# Altium footprint library con-amp-mt.PCBLIB: 51 footprints (part 2 of 4)
Each footprint in its own frame and in the unit in brackets; x right, y up, seen from the top. Pads: shape width x height; smd on the part's side, far side on the other; paste and mask are expansions set on the pad; w line width, h text height; cw(c..) or ccw(c..) is an arc to the next point about the centre after c.
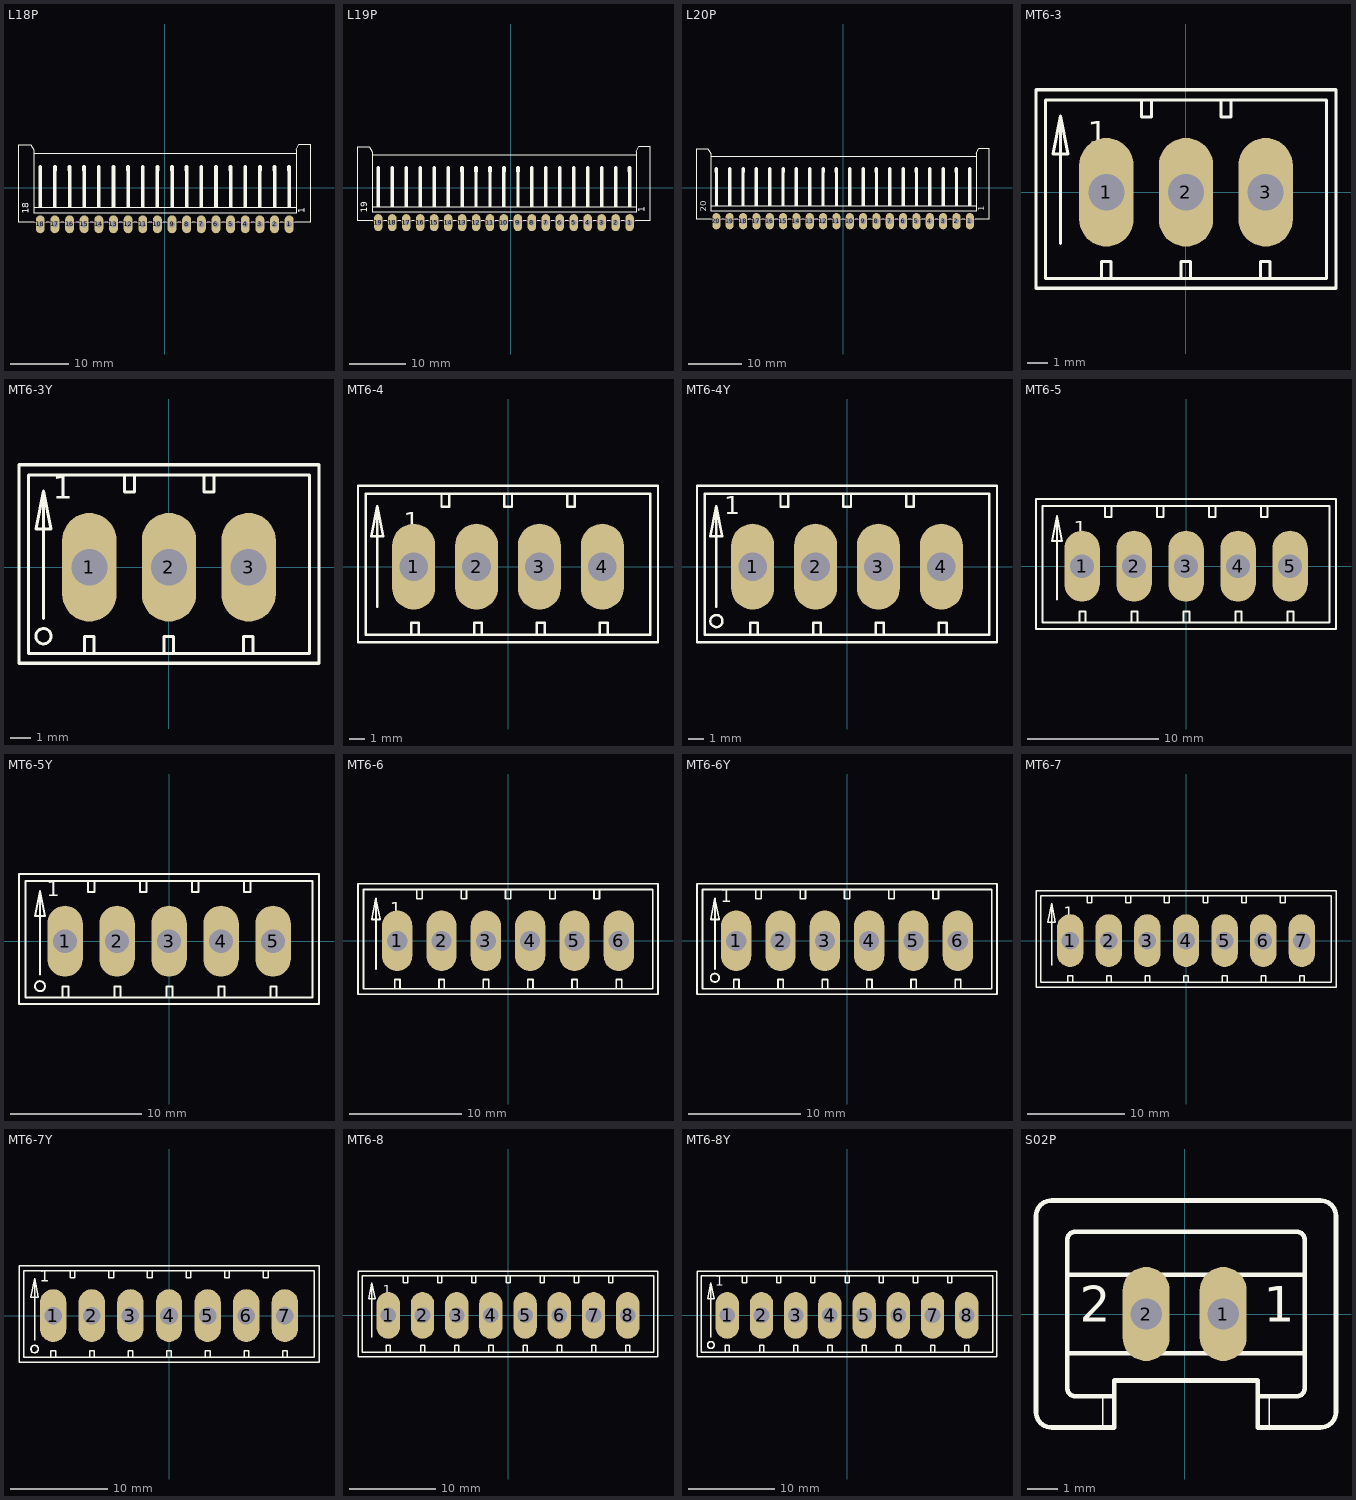
[diagram p1: the footprints below, top view; thin cyan lines are the x and y axes]

## L18P [mil]
pads (18):
  oval 60x120 hole 40: 1(836.61,-246.06) 2(738.19,-246.06) 3(639.76,-246.06) 4(541.34,-246.06) 5(442.91,-246.06) 6(344.49,-246.06) 7(246.06,-246.06) 8(147.64,-246.06) 9(49.21,-246.06) 10(-49.21,-246.06) 11(-147.64,-246.06) 12(-246.06,-246.06) 13(-344.49,-246.06) 14(-442.91,-246.06) 15(-541.34,-246.06) 16(-639.39,-246.06) 17(-738.39,-246.06) 18(-836.39,-246.06)
Top Overlay:
  rectangle: 824.61,-136.06 848.61,123.94
  rectangle: 726.61,-136.06 750.61,123.94
  rectangle: 627.61,-136.06 651.61,123.94
  rectangle: 529.61,-136.06 553.61,123.94
  rectangle: 430.61,-136.06 454.61,123.94
  rectangle: 332.61,-136.06 356.61,123.94
  rectangle: 233.61,-136.06 257.61,123.94
  rectangle: 135.61,-136.06 159.61,123.94
  rectangle: 37.61,-136.06 61.61,123.94
  rectangle: -61.39,-136.06 -37.39,123.94
  rectangle: -159.39,-136.06 -135.39,123.94
  rectangle: -258.39,-136.06 -234.39,123.94
  rectangle: -356.39,-136.06 -332.39,123.94
  rectangle: -455.39,-136.06 -431.39,123.94
  rectangle: -553.39,-136.06 -529.39,123.94
  rectangle: -651.39,-136.06 -627.39,123.94
  rectangle: -750.39,-136.06 -726.39,123.94
  rectangle: -848.39,-136.06 -824.39,123.94
  lines w6: -876.38,-231.06 -979.37,-231.06 -979.37,288.94 -899.37,288.94 -879.37,253.94 -879.37,228.94 ; -797.4,-231.06 -777.4,-231.06 ; -698.39,-231.06 -678.39,-231.06 ; -599.37,-231.06 -579.37,-231.06 ; -501.38,-231.06 -481.38,-231.06 ; -403.39,-231.06 -383.39,-231.06 ; -305.39,-231.06 -285.39,-231.06 ; -207.4,-231.06 -187.4,-231.06 ; -108.39,-231.06 -88.39,-231.06 ; -10.39,-231.06 9.61,-231.06 ; 87.6,-231.06 107.6,-231.06 ; 185.63,-231.06 206.61,-231.06 ; 284.61,-231.06 304.61,-231.06 ; 382.6,-231.06 405.63,-231.06 ; 482.6,-231.06 502.6,-231.06 ; 580.63,-231.06 601.61,-231.06 ; 679.61,-231.06 699.61,-231.06 ; 777.6,-231.06 797.6,-231.06 ; 875.63,-231.06 981.61,-231.06 981.61,288.94 902.6,288.94 882.6,253.94 882.6,228.94 ; -879.37,-136.06 882.6,-136.06 ; -879.37,-136.06 -879.37,-171.06 882.6,-171.06 882.6,-136.06 ; -879.37,-136.06 -879.37,228.94 ; -879.37,228.94 882.6,228.94 ; 882.6,-136.06 882.6,228.94
  lines w26: -836.38,118.94 -836.38,138.94 ; -738.39,118.94 -738.39,138.94 ; -639.37,118.94 -639.37,138.94 ; -541.34,118.94 -541.34,138.94 ; -442.91,118.94 -442.91,138.94 ; -344.49,118.94 -344.49,138.94 ; -246.06,118.94 -246.06,138.94 ; -147.64,118.94 -147.64,138.94 ; -49.21,118.94 -49.21,138.94 ; 49.61,118.94 49.61,138.94 ; 147.6,118.94 147.6,138.94 ; 246.06,118.94 246.06,138.94 ; 344.61,118.94 344.61,138.94 ; 442.6,118.94 442.6,138.94 ; 541.34,118.94 541.34,138.94 ; 639.61,118.94 639.61,138.94 ; 738.19,118.94 738.19,138.94 ; 836.61,118.94 836.61,138.94
  text "1" at 959.61,-171.06 h77.5
  text "18" at -897.39,-176.06 h77.5
Mechanical 16:
  rectangle: 824.61,-256.06 848.61,-231.06
  rectangle: 726.61,-256.06 750.61,-231.06
  rectangle: 627.61,-256.06 651.61,-231.06
  rectangle: 529.61,-256.06 553.61,-231.06
  rectangle: 430.61,-256.06 454.61,-231.06
  rectangle: 332.61,-256.06 356.61,-231.06
  rectangle: 233.61,-256.06 257.61,-231.06
  rectangle: 135.61,-256.06 159.61,-231.06
  rectangle: 37.61,-256.06 61.61,-231.06
  rectangle: -61.39,-256.06 -37.39,-231.06
  rectangle: -159.39,-256.06 -135.39,-231.06
  rectangle: -258.39,-256.06 -234.39,-231.06
  rectangle: -356.39,-256.06 -332.39,-231.06
  rectangle: -455.39,-256.06 -431.39,-231.06
  rectangle: -553.39,-256.06 -529.39,-231.06
  rectangle: -651.39,-256.06 -627.39,-231.06
  rectangle: -750.39,-256.06 -726.39,-231.06
  rectangle: -848.39,-256.06 -824.39,-231.06
  lines w6: -875.39,-231.06 -797.4,-231.06 ; -777.4,-231.06 -699.37,-231.06 ; -678.39,-231.06 -600.39,-231.06 ; -580.39,-231.06 -502.4,-231.06 ; -482.4,-231.06 -404.37,-231.06 ; -383.39,-231.06 -305.39,-231.06 ; -285.39,-231.06 -207.4,-231.06 ; -186.38,-231.06 -108.39,-231.06 ; -88.39,-231.06 -10.39,-231.06 ; 9.61,-231.06 87.6,-231.06 ; 107.6,-231.06 185.63,-231.06 ; 206.61,-231.06 284.61,-231.06 ; 304.61,-231.06 382.6,-231.06 ; 405.63,-231.06 482.6,-231.06 ; 502.6,-231.06 580.63,-231.06 ; 601.61,-231.06 679.61,-231.06 ; 699.61,-231.06 777.6,-231.06 ; 797.6,-231.06 875.63,-231.06

## L19P [mil]
pads (19):
  oval 60x120 hole 40: 1(836.61,-246.06) 2(738.19,-246.06) 3(639.76,-246.06) 4(541.34,-246.06) 5(442.91,-246.06) 6(344.49,-246.06) 7(246.06,-246.06) 8(147.64,-246.06) 9(49.21,-246.06) 10(-49.21,-246.06) 11(-147.64,-246.06) 12(-246.06,-246.06) 13(-344.49,-246.06) 14(-442.91,-246.06) 15(-541.34,-246.06) 16(-639.39,-246.06) 17(-738.39,-246.06) 18(-836.39,-246.06) 19(-935.39,-246.06)
Top Overlay:
  rectangle: 824.61,-136.06 848.61,123.94
  rectangle: 726.61,-136.06 750.61,123.94
  rectangle: 627.61,-136.06 651.61,123.94
  rectangle: 529.61,-136.06 553.61,123.94
  rectangle: 430.61,-136.06 454.61,123.94
  rectangle: 332.61,-136.06 356.61,123.94
  rectangle: 233.61,-136.06 257.61,123.94
  rectangle: 135.61,-136.06 159.61,123.94
  rectangle: 37.61,-136.06 61.61,123.94
  rectangle: -61.39,-136.06 -37.39,123.94
  rectangle: -159.39,-136.06 -135.39,123.94
  rectangle: -258.39,-136.06 -234.39,123.94
  rectangle: -356.39,-136.06 -332.39,123.94
  rectangle: -455.39,-136.06 -431.39,123.94
  rectangle: -553.39,-136.06 -529.39,123.94
  rectangle: -651.39,-136.06 -627.39,123.94
  rectangle: -750.39,-136.06 -726.39,123.94
  rectangle: -848.39,-136.06 -824.39,123.94
  rectangle: -947.39,-136.06 -923.39,123.94
  lines w6: -975.39,-231.06 -1078.39,-231.06 -1078.39,288.94 -998.39,288.94 -978.39,253.94 -978.39,228.94 ; -897.4,-231.06 -877.4,-231.06 ; -798.39,-231.06 -778.39,-231.06 ; -700.39,-231.06 -680.39,-231.06 ; -601.38,-231.06 -581.38,-231.06 ; -503.39,-231.06 -483.39,-231.06 ; -405.39,-231.06 -385.39,-231.06 ; -306.38,-231.06 -286.38,-231.06 ; -208.39,-231.06 -188.39,-231.06 ; -109.37,-231.06 -89.37,-231.06 ; -10.39,-231.06 9.61,-231.06 ; 87.6,-231.06 107.6,-231.06 ; 185.63,-231.06 206.61,-231.06 ; 284.61,-231.06 304.61,-231.06 ; 382.6,-231.06 405.63,-231.06 ; 482.6,-231.06 502.6,-231.06 ; 580.63,-231.06 601.61,-231.06 ; 679.61,-231.06 699.61,-231.06 ; 777.6,-231.06 797.6,-231.06 ; 875.63,-231.06 981.61,-231.06 981.61,288.94 902.6,288.94 882.6,253.94 882.6,228.94 ; -978.39,-136.06 882.6,-136.06 ; -978.39,-136.06 -978.39,-171.06 882.6,-171.06 882.6,-136.06 ; -978.39,-136.06 -978.39,228.94 ; -978.39,228.94 882.6,228.94 ; 882.6,-136.06 882.6,228.94
  lines w26: -935.39,118.94 -935.39,138.94 ; -836.38,118.94 -836.38,138.94 ; -738.39,118.94 -738.39,138.94 ; -639.37,118.94 -639.37,138.94 ; -541.34,118.94 -541.34,138.94 ; -442.91,118.94 -442.91,138.94 ; -344.49,118.94 -344.49,138.94 ; -246.06,118.94 -246.06,138.94 ; -147.64,118.94 -147.64,138.94 ; -49.21,118.94 -49.21,138.94 ; 49.61,118.94 49.61,138.94 ; 147.6,118.94 147.6,138.94 ; 246.06,118.94 246.06,138.94 ; 344.61,118.94 344.61,138.94 ; 442.6,118.94 442.6,138.94 ; 541.34,118.94 541.34,138.94 ; 639.61,118.94 639.61,138.94 ; 738.19,118.94 738.19,138.94 ; 836.61,118.94 836.61,138.94
  text "1" at 959.61,-171.06 h77.5
  text "19" at -996.39,-176.06 h77.5
Mechanical 16:
  rectangle: 824.61,-256.06 848.61,-231.06
  rectangle: 726.61,-256.06 750.61,-231.06
  rectangle: 627.61,-256.06 651.61,-231.06
  rectangle: 529.61,-256.06 553.61,-231.06
  rectangle: 430.61,-256.06 454.61,-231.06
  rectangle: 332.61,-256.06 356.61,-231.06
  rectangle: 233.61,-256.06 257.61,-231.06
  rectangle: 135.61,-256.06 159.61,-231.06
  rectangle: 37.61,-256.06 61.61,-231.06
  rectangle: -61.39,-256.06 -37.39,-231.06
  rectangle: -159.39,-256.06 -135.39,-231.06
  rectangle: -258.39,-256.06 -234.39,-231.06
  rectangle: -356.39,-256.06 -332.39,-231.06
  rectangle: -455.39,-256.06 -431.39,-231.06
  rectangle: -553.39,-256.06 -529.39,-231.06
  rectangle: -651.39,-256.06 -627.39,-231.06
  rectangle: -750.39,-256.06 -726.39,-231.06
  rectangle: -848.39,-256.06 -824.39,-231.06
  rectangle: -947.39,-256.06 -923.39,-231.06
  lines w6: -974.37,-231.06 -896.38,-231.06 ; -875.39,-231.06 -797.4,-231.06 ; -777.4,-231.06 -699.37,-231.06 ; -678.39,-231.06 -600.39,-231.06 ; -580.39,-231.06 -502.4,-231.06 ; -482.4,-231.06 -404.37,-231.06 ; -383.39,-231.06 -305.39,-231.06 ; -285.39,-231.06 -207.4,-231.06 ; -186.38,-231.06 -108.39,-231.06 ; -88.39,-231.06 -10.39,-231.06 ; 9.61,-231.06 87.6,-231.06 ; 107.6,-231.06 185.63,-231.06 ; 206.61,-231.06 284.61,-231.06 ; 304.61,-231.06 382.6,-231.06 ; 405.63,-231.06 482.6,-231.06 ; 502.6,-231.06 580.63,-231.06 ; 601.61,-231.06 679.61,-231.06 ; 699.61,-231.06 777.6,-231.06 ; 797.6,-231.06 875.63,-231.06

## L20P [mil]
pads (20):
  oval 60x120 hole 40: 1(935.04,-246.06) 2(836.61,-246.06) 3(738.19,-246.06) 4(639.76,-246.06) 5(541.34,-246.06) 6(442.91,-246.06) 7(344.49,-246.06) 8(246.06,-246.06) 9(147.64,-246.06) 10(49.21,-246.06) 11(-49.21,-246.06) 12(-147.64,-246.06) 13(-246.06,-246.06) 14(-344.49,-246.06) 15(-442.91,-246.06) 16(-540.96,-246.06) 17(-639.96,-246.06) 18(-737.96,-246.06) 19(-836.96,-246.06) 20(-934.96,-246.06)
Top Overlay:
  rectangle: 923.04,-136.06 947.04,123.94
  rectangle: 825.04,-136.06 849.04,123.94
  rectangle: 726.04,-136.06 750.04,123.94
  rectangle: 628.04,-136.06 652.04,123.94
  rectangle: 529.04,-136.06 553.04,123.94
  rectangle: 431.04,-136.06 455.04,123.94
  rectangle: 332.04,-136.06 356.04,123.94
  rectangle: 234.04,-136.06 258.04,123.94
  rectangle: 136.04,-136.06 160.04,123.94
  rectangle: 37.04,-136.06 61.04,123.94
  rectangle: -60.96,-136.06 -36.96,123.94
  rectangle: -159.96,-136.06 -135.96,123.94
  rectangle: -257.96,-136.06 -233.96,123.94
  rectangle: -356.96,-136.06 -332.96,123.94
  rectangle: -454.96,-136.06 -430.96,123.94
  rectangle: -552.96,-136.06 -528.96,123.94
  rectangle: -651.96,-136.06 -627.96,123.94
  rectangle: -749.96,-136.06 -725.96,123.94
  rectangle: -848.96,-136.06 -824.96,123.94
  rectangle: -946.96,-136.06 -922.96,123.94
  lines w6: -973.98,-231.06 -1077.95,-231.06 -1077.95,288.94 -997.95,288.94 -977.95,253.94 -977.95,228.94 ; -896.97,-231.06 -876.97,-231.06 ; -798.98,-231.06 -778.98,-231.06 ; -700.94,-231.06 -680.94,-231.06 ; -601.97,-231.06 -581.97,-231.06 ; -502.95,-231.06 -482.95,-231.06 ; -404.96,-231.06 -384.96,-231.06 ; -305.94,-231.06 -285.94,-231.06 ; -207.95,-231.06 -187.95,-231.06 ; -108.98,-231.06 -88.98,-231.06 ; -10.94,-231.06 9.06,-231.06 ; 88.03,-231.06 108.03,-231.06 ; 186.02,-231.06 206.02,-231.06 ; 284.06,-231.06 305.04,-231.06 ; 383.03,-231.06 403.03,-231.06 ; 481.02,-231.06 504.06,-231.06 ; 581.02,-231.06 601.02,-231.06 ; 679.06,-231.06 700.04,-231.06 ; 778.03,-231.06 798.03,-231.06 ; 876.02,-231.06 896.02,-231.06 ; 974.06,-231.06 1080.04,-231.06 1080.04,288.94 1001.02,288.94 981.02,253.94 981.02,228.94 ; -977.95,-136.06 981.02,-136.06 ; -977.95,-136.06 -977.95,-171.06 981.02,-171.06 981.02,-136.06 ; -977.95,-136.06 -977.95,228.94 ; -977.95,228.94 981.02,228.94 ; 981.02,-136.06 981.02,228.94
  lines w26: -934.96,118.94 -934.96,138.94 ; -836.97,118.94 -836.97,138.94 ; -737.95,118.94 -737.95,138.94 ; -639.96,118.94 -639.96,138.94 ; -540.94,118.94 -540.94,138.94 ; -442.91,118.94 -442.91,138.94 ; -344.49,118.94 -344.49,138.94 ; -246.06,118.94 -246.06,138.94 ; -147.64,118.94 -147.64,138.94 ; -49.21,118.94 -49.21,138.94 ; 49.21,118.94 49.21,138.94 ; 148.03,118.94 148.03,138.94 ; 246.02,118.94 246.02,138.94 ; 344.49,118.94 344.49,138.94 ; 443.03,118.94 443.03,138.94 ; 541.02,118.94 541.02,138.94 ; 639.76,118.94 639.76,138.94 ; 738.03,118.94 738.03,138.94 ; 836.61,118.94 836.61,138.94 ; 935.04,118.94 935.04,138.94
  text "1" at 1058.04,-171.06 h77.5
  text "20" at -995.96,-176.06 h77.5
Mechanical 16:
  rectangle: 923.04,-256.06 947.04,-231.06
  rectangle: 825.04,-256.06 849.04,-231.06
  rectangle: 726.04,-256.06 750.04,-231.06
  rectangle: 628.04,-256.06 652.04,-231.06
  rectangle: 529.04,-256.06 553.04,-231.06
  rectangle: 431.04,-256.06 455.04,-231.06
  rectangle: 332.04,-256.06 356.04,-231.06
  rectangle: 234.04,-256.06 258.04,-231.06
  rectangle: 136.04,-256.06 160.04,-231.06
  rectangle: 37.04,-256.06 61.04,-231.06
  rectangle: -60.96,-256.06 -36.96,-231.06
  rectangle: -159.96,-256.06 -135.96,-231.06
  rectangle: -257.96,-256.06 -233.96,-231.06
  rectangle: -356.96,-256.06 -332.96,-231.06
  rectangle: -454.96,-256.06 -430.96,-231.06
  rectangle: -552.96,-256.06 -528.96,-231.06
  rectangle: -651.96,-256.06 -627.96,-231.06
  rectangle: -749.96,-256.06 -725.96,-231.06
  rectangle: -848.96,-256.06 -824.96,-231.06
  rectangle: -946.96,-256.06 -922.96,-231.06
  lines w6: -973.98,-231.06 -894.96,-231.06 ; -875.94,-231.06 -796.97,-231.06 ; -776.97,-231.06 -697.95,-231.06 ; -678.98,-231.06 -599.96,-231.06 ; -579.96,-231.06 -500.94,-231.06 ; -481.97,-231.06 -402.95,-231.06 ; -383.98,-231.06 -304.96,-231.06 ; -284.96,-231.06 -205.94,-231.06 ; -186.97,-231.06 -107.95,-231.06 ; -87.95,-231.06 -8.98,-231.06 ; 10.04,-231.06 89.06,-231.06 ; 108.03,-231.06 186.02,-231.06 ; 206.02,-231.06 284.06,-231.06 ; 305.04,-231.06 383.03,-231.06 ; 403.03,-231.06 481.02,-231.06 ; 504.06,-231.06 581.02,-231.06 ; 601.02,-231.06 679.06,-231.06 ; 700.04,-231.06 778.03,-231.06 ; 798.03,-231.06 876.02,-231.06 ; 896.02,-231.06 974.06,-231.06

## MT6-3 [mil]
pads (3):
  oval 106.5x213 hole 71: 1(-156,0) 2(0,0) 3(156,0)
Top Overlay:
  lines w6: -246,-100 -246,150 ; -246,150 -261,75 -231,75 -246,150 ; -166,-169 -275,-169 -275,181 -87,181 ; -166,-169 -166,-136 -147,-136 -147,-169 ; -166,-169 -147,-169 ; -147,-169 -10,-169 ; -87,181 -87,148 -68,148 -68,181 ; -87,181 -68,181 ; -68,181 69,181 ; -10,-169 -10,-136 9,-136 9,-169 ; -10,-169 9,-169 ; 9,-169 146,-169 ; 69,181 69,148 88,148 88,181 ; 69,181 88,181 ; 88,181 275,181 275,-169 165,-169 ; 146,-169 146,-136 165,-136 165,-169 ; 146,-169 165,-169 ; -294,-188 -294,201 294,201 294,-188 -294,-188
  text "1" at -193,79 h77.5
Mechanical 16:
  lines w6: -181,-25 -181,25 ; -181,-25 -131,-25 ; -181,-25 -131,25 ; -181,25 -131,25 ; -181,25 -131,-25 ; -131,-25 -131,25 ; -25,-25 -25,25 ; -25,-25 25,-25 ; -25,-25 25,25 ; -25,25 25,25 ; -25,25 25,-25 ; 25,-25 25,25 ; 131,-25 131,25 ; 131,-25 181,-25 ; 131,-25 181,25 ; 131,25 181,25 ; 131,25 181,-25 ; 181,-25 181,25

## MT6-3Y [mil]
pads (3):
  oval 106.5x213 hole 71: 1(-156,0) 2(0,0) 3(156,0)
Top Overlay:
  circle w6: c-246,-135 r15
  lines w6: -246,-100 -246,150 ; -246,150 -261,75 -231,75 -246,150 ; -166,-169 -275,-169 -275,181 -87,181 ; -166,-169 -166,-136 -147,-136 -147,-169 ; -166,-169 -147,-169 ; -147,-169 -10,-169 ; -87,181 -87,148 -68,148 -68,181 ; -87,181 -68,181 ; -68,181 69,181 ; -10,-169 -10,-136 9,-136 9,-169 ; -10,-169 9,-169 ; 9,-169 146,-169 ; 69,181 69,148 88,148 88,181 ; 69,181 88,181 ; 88,181 275,181 275,-169 165,-169 ; 146,-169 146,-136 165,-136 165,-169 ; 146,-169 165,-169 ; -294,-188 -294,201 294,201 294,-188 -294,-188
  text "1" at -228,119 h77.5
Mechanical 16:
  lines w6: -181,-25 -181,25 ; -181,-25 -131,-25 ; -181,-25 -131,25 ; -181,25 -131,25 ; -181,25 -131,-25 ; -131,-25 -131,25 ; -25,-25 -25,25 ; -25,-25 25,-25 ; -25,-25 25,25 ; -25,25 25,25 ; -25,25 25,-25 ; 25,-25 25,25 ; 131,-25 131,25 ; 131,-25 181,-25 ; 131,-25 181,25 ; 131,25 181,25 ; 131,25 181,-25 ; 181,-25 181,25

## MT6-4 [mil]
pads (4):
  oval 106.5x213 hole 71: 1(-234,0) 2(-78,0) 3(78,0) 4(234,0)
Top Overlay:
  lines w6: -324,-100 -324,150 ; -324,150 -339,75 -309,75 -324,150 ; -240,-169 -240,-139 -221,-139 -221,-169 ; -240,-169 -221,-169 ; -240,-169 -353,-169 -353,181 -165,181 ; -221,-169 -84,-169 ; -165,181 -165,148 -146,148 -146,181 ; -165,181 -146,181 ; -146,181 -9,181 ; -84,-169 -84,-139 -65,-139 -65,-169 ; -84,-169 -65,-169 ; -65,-169 71,-169 ; -9,181 -9,148 10,148 10,181 ; -9,181 10,181 ; 10,181 147,181 ; 71,-169 71,-139 91,-139 91,-169 ; 71,-169 91,-169 ; 91,-169 228,-169 ; 147,181 166,181 ; 147,181 147,148 166,148 166,181 ; 166,181 353,181 353,-169 247,-169 ; 228,-169 228,-139 247,-139 247,-169 ; 228,-169 247,-169 ; -372,-188 -372,201 372,201 372,-188 -372,-188
  text "1" at -259,75 h77.5
Mechanical 16:
  lines w6: -259,-25 -259,25 ; -259,-25 -209,-25 ; -259,-25 -209,25 ; -259,25 -209,25 ; -259,25 -209,-25 ; -209,-25 -209,25 ; -103,-25 -103,25 ; -103,-25 -53,-25 ; -103,-25 -53,25 ; -103,25 -53,25 ; -103,25 -53,-25 ; -53,-25 -53,25 ; 53,-25 53,25 ; 53,-25 103,-25 ; 53,-25 103,25 ; 53,25 103,25 ; 53,25 103,-25 ; 103,-25 103,25 ; 209,-25 209,25 ; 209,-25 259,-25 ; 209,-25 259,25 ; 209,25 259,25 ; 209,25 259,-25 ; 259,-25 259,25

## MT6-4Y [mil]
pads (4):
  oval 106.5x213 hole 71: 1(-234,0) 2(-78,0) 3(78,0) 4(234,0)
Top Overlay:
  circle w6: c-324,-135 r15
  lines w6: -324,-100 -324,150 ; -324,150 -339,75 -309,75 -324,150 ; -240,-169 -240,-139 -221,-139 -221,-169 ; -240,-169 -221,-169 ; -240,-169 -353,-169 -353,181 -165,181 ; -221,-169 -84,-169 ; -165,181 -165,148 -146,148 -146,181 ; -165,181 -146,181 ; -146,181 -9,181 ; -84,-169 -84,-139 -65,-139 -65,-169 ; -84,-169 -65,-169 ; -65,-169 71,-169 ; -9,181 -9,148 10,148 10,181 ; -9,181 10,181 ; 10,181 147,181 ; 71,-169 71,-139 91,-139 91,-169 ; 71,-169 91,-169 ; 91,-169 228,-169 ; 147,181 166,181 ; 147,181 147,148 166,148 166,181 ; 166,181 353,181 353,-169 247,-169 ; 228,-169 228,-139 247,-139 247,-169 ; 228,-169 247,-169 ; -372,-188 -372,201 372,201 372,-188 -372,-188
  text "1" at -304,115 h77.5
Mechanical 16:
  lines w6: -259,-25 -259,25 ; -259,-25 -209,-25 ; -259,-25 -209,25 ; -259,25 -209,25 ; -259,25 -209,-25 ; -209,-25 -209,25 ; -103,-25 -103,25 ; -103,-25 -53,-25 ; -103,-25 -53,25 ; -103,25 -53,25 ; -103,25 -53,-25 ; -53,-25 -53,25 ; 53,-25 53,25 ; 53,-25 103,-25 ; 53,-25 103,25 ; 53,25 103,25 ; 53,25 103,-25 ; 103,-25 103,25 ; 209,-25 209,25 ; 209,-25 259,-25 ; 209,-25 259,25 ; 209,25 259,25 ; 209,25 259,-25 ; 259,-25 259,25

## MT6-5 [mil]
pads (5):
  oval 106.5x213 hole 71: 1(-312,0) 2(-156,0) 3(0,0) 4(156,0) 5(312,0)
Top Overlay:
  lines w6: -387,-100 -387,150 ; -387,150 -402,75 -372,75 -387,150 ; -320,-169 -431,-169 -431,181 -243,181 ; -320,-169 -320,-136 -301,-136 -301,-169 ; -320,-169 -301,-169 ; -301,-169 -164,-169 ; -243,181 -243,148 -224,148 -224,181 ; -243,181 -224,181 ; -224,181 -87,181 ; -164,-169 -164,-136 -145,-136 -145,-169 ; -164,-169 -145,-169 ; -145,-169 -8,-169 ; -87,181 -87,148 -68,148 -68,181 ; -87,181 -68,181 ; -68,181 69,181 ; -8,-169 -8,-136 11,-136 11,-169 ; -8,-169 11,-169 ; 11,-169 148,-169 ; 69,181 88,181 ; 69,181 69,148 88,148 88,181 ; 88,181 225,181 ; 148,-169 148,-136 167,-136 167,-169 ; 148,-169 167,-169 ; 167,-169 304,-169 ; 225,181 244,181 ; 225,181 225,148 244,148 244,181 ; 244,181 431,181 431,-169 323,-169 ; 304,-169 304,-136 323,-136 323,-169 ; 304,-169 323,-169 ; -450,-188 -450,201 450,201 450,-188 -450,-188
  text "1" at -337,75 h77.5
Mechanical 16:
  lines w6: -337,-25 -337,25 ; -337,-25 -287,-25 ; -337,-25 -287,25 ; -337,25 -287,25 ; -337,25 -287,-25 ; -287,-25 -287,25 ; -181,-25 -181,25 ; -181,-25 -131,-25 ; -181,-25 -131,25 ; -181,25 -131,25 ; -181,25 -131,-25 ; -131,-25 -131,25 ; -25,-25 -25,25 ; -25,-25 25,-25 ; -25,-25 25,25 ; -25,25 25,25 ; -25,25 25,-25 ; 25,-25 25,25 ; 131,-25 131,25 ; 131,-25 181,-25 ; 131,-25 181,25 ; 131,25 181,25 ; 131,25 181,-25 ; 181,-25 181,25 ; 287,-25 287,25 ; 287,-25 337,-25 ; 287,-25 337,25 ; 287,25 337,25 ; 287,25 337,-25 ; 337,-25 337,25

## MT6-5Y [mil]
pads (5):
  oval 106.5x213 hole 71: 1(-312,0) 2(-156,0) 3(0,0) 4(156,0) 5(312,0)
Top Overlay:
  circle w6: c-387,-135 r15
  lines w6: -387,-100 -387,150 ; -387,150 -402,75 -372,75 -387,150 ; -320,-169 -431,-169 -431,181 -243,181 ; -320,-169 -320,-136 -301,-136 -301,-169 ; -320,-169 -301,-169 ; -301,-169 -164,-169 ; -243,181 -243,148 -224,148 -224,181 ; -243,181 -224,181 ; -224,181 -87,181 ; -164,-169 -164,-136 -145,-136 -145,-169 ; -164,-169 -145,-169 ; -145,-169 -8,-169 ; -87,181 -87,148 -68,148 -68,181 ; -87,181 -68,181 ; -68,181 69,181 ; -8,-169 -8,-136 11,-136 11,-169 ; -8,-169 11,-169 ; 11,-169 148,-169 ; 69,181 88,181 ; 69,181 69,148 88,148 88,181 ; 88,181 225,181 ; 148,-169 148,-136 167,-136 167,-169 ; 148,-169 167,-169 ; 167,-169 304,-169 ; 225,181 244,181 ; 225,181 225,148 244,148 244,181 ; 244,181 431,181 431,-169 323,-169 ; 304,-169 304,-136 323,-136 323,-169 ; 304,-169 323,-169 ; -450,-188 -450,201 450,201 450,-188 -450,-188
  text "1" at -367,120 h77.5
Mechanical 16:
  lines w6: -337,-25 -337,25 ; -337,-25 -287,-25 ; -337,-25 -287,25 ; -337,25 -287,25 ; -337,25 -287,-25 ; -287,-25 -287,25 ; -181,-25 -181,25 ; -181,-25 -131,-25 ; -181,-25 -131,25 ; -181,25 -131,25 ; -181,25 -131,-25 ; -131,-25 -131,25 ; -25,-25 -25,25 ; -25,-25 25,-25 ; -25,-25 25,25 ; -25,25 25,25 ; -25,25 25,-25 ; 25,-25 25,25 ; 131,-25 131,25 ; 131,-25 181,-25 ; 131,-25 181,25 ; 131,25 181,25 ; 131,25 181,-25 ; 181,-25 181,25 ; 287,-25 287,25 ; 287,-25 337,-25 ; 287,-25 337,25 ; 287,25 337,25 ; 287,25 337,-25 ; 337,-25 337,25

## MT6-6 [mil]
pads (6):
  oval 106.5x213 hole 71: 1(-390,0) 2(-234,0) 3(-78,0) 4(78,0) 5(234,0) 6(390,0)
Top Overlay:
  lines w6: -465,-100 -465,150 ; -465,150 -480,75 -450,75 -465,150 ; -399,-169 -509,-169 -509,181 -321,181 ; -399,-169 -399,-136 -380,-136 -380,-169 ; -399,-169 -380,-169 ; -380,-169 -243,-169 ; -321,181 -321,148 -302,148 -302,181 ; -321,181 -302,181 ; -302,181 -165,181 ; -243,-169 -243,-136 -224,-136 -224,-169 ; -243,-169 -224,-169 ; -224,-169 -87,-169 ; -165,181 -165,148 -146,148 -146,181 ; -165,181 -146,181 ; -146,181 -9,181 ; -87,-169 -87,-136 -68,-136 -68,-169 ; -87,-169 -68,-169 ; -68,-169 69,-169 ; -9,181 10,181 ; -9,181 -9,148 10,148 10,181 ; 10,181 147,181 ; 69,-169 69,-136 88,-136 88,-169 ; 69,-169 88,-169 ; 88,-169 225,-169 ; 147,181 166,181 ; 147,181 147,148 166,148 166,181 ; 166,181 303,181 ; 225,-169 225,-136 244,-136 244,-169 ; 225,-169 244,-169 ; 244,-169 381,-169 ; 303,181 322,181 ; 303,181 303,148 322,148 322,181 ; 322,181 509,181 509,-169 400,-169 ; 381,-169 381,-136 400,-136 400,-169 ; 381,-169 400,-169 ; -528,-188 -528,201 528,201 528,-188 -528,-188
  text "1" at -415,75 h77.5
Mechanical 16:
  lines w6: -415,-25 -415,25 ; -415,-25 -365,-25 ; -415,-25 -365,25 ; -415,25 -365,25 ; -415,25 -365,-25 ; -365,-25 -365,25 ; -259,-25 -259,25 ; -259,-25 -209,-25 ; -259,-25 -209,25 ; -259,25 -209,25 ; -259,25 -209,-25 ; -209,-25 -209,25 ; -103,-25 -103,25 ; -103,-25 -53,-25 ; -103,-25 -53,25 ; -103,25 -53,25 ; -103,25 -53,-25 ; -53,-25 -53,25 ; 53,-25 53,25 ; 53,-25 103,-25 ; 53,-25 103,25 ; 53,25 103,25 ; 53,25 103,-25 ; 103,-25 103,25 ; 209,-25 209,25 ; 209,-25 259,-25 ; 209,-25 259,25 ; 209,25 259,25 ; 209,25 259,-25 ; 259,-25 259,25 ; 365,-25 365,25 ; 365,-25 415,-25 ; 365,-25 415,25 ; 365,25 415,25 ; 365,25 415,-25 ; 415,-25 415,25

## MT6-6Y [mil]
pads (6):
  oval 106.5x213 hole 71: 1(-390,0) 2(-234,0) 3(-78,0) 4(78,0) 5(234,0) 6(390,0)
Top Overlay:
  circle w6: c-465,-130 r15
  lines w6: -465,-100 -465,150 ; -465,150 -480,75 -450,75 -465,150 ; -399,-169 -509,-169 -509,181 -321,181 ; -399,-169 -399,-136 -380,-136 -380,-169 ; -399,-169 -380,-169 ; -380,-169 -243,-169 ; -321,181 -321,148 -302,148 -302,181 ; -321,181 -302,181 ; -302,181 -165,181 ; -243,-169 -243,-136 -224,-136 -224,-169 ; -243,-169 -224,-169 ; -224,-169 -87,-169 ; -165,181 -165,148 -146,148 -146,181 ; -165,181 -146,181 ; -146,181 -9,181 ; -87,-169 -87,-136 -68,-136 -68,-169 ; -87,-169 -68,-169 ; -68,-169 69,-169 ; -9,181 10,181 ; -9,181 -9,148 10,148 10,181 ; 10,181 147,181 ; 69,-169 69,-136 88,-136 88,-169 ; 69,-169 88,-169 ; 88,-169 225,-169 ; 147,181 166,181 ; 147,181 147,148 166,148 166,181 ; 166,181 303,181 ; 225,-169 225,-136 244,-136 244,-169 ; 225,-169 244,-169 ; 244,-169 381,-169 ; 303,181 322,181 ; 303,181 303,148 322,148 322,181 ; 322,181 509,181 509,-169 400,-169 ; 381,-169 381,-136 400,-136 400,-169 ; 381,-169 400,-169 ; -528,-188 -528,201 528,201 528,-188 -528,-188
  text "1" at -445,120 h77.5
Mechanical 16:
  lines w6: -415,-25 -415,25 ; -415,-25 -365,-25 ; -415,-25 -365,25 ; -415,25 -365,25 ; -415,25 -365,-25 ; -365,-25 -365,25 ; -259,-25 -259,25 ; -259,-25 -209,-25 ; -259,-25 -209,25 ; -259,25 -209,25 ; -259,25 -209,-25 ; -209,-25 -209,25 ; -103,-25 -103,25 ; -103,-25 -53,-25 ; -103,-25 -53,25 ; -103,25 -53,25 ; -103,25 -53,-25 ; -53,-25 -53,25 ; 53,-25 53,25 ; 53,-25 103,-25 ; 53,-25 103,25 ; 53,25 103,25 ; 53,25 103,-25 ; 103,-25 103,25 ; 209,-25 209,25 ; 209,-25 259,-25 ; 209,-25 259,25 ; 209,25 259,25 ; 209,25 259,-25 ; 259,-25 259,25 ; 365,-25 365,25 ; 365,-25 415,-25 ; 365,-25 415,25 ; 365,25 415,25 ; 365,25 415,-25 ; 415,-25 415,25

## MT6-7 [mil]
pads (7):
  oval 106.5x213 hole 71: 1(-468,0) 2(-312,0) 3(-156,0) 4(0,0) 5(156,0) 6(312,0) 7(468,0)
Top Overlay:
  lines w6: -543,-100 -543,150 ; -543,150 -558,75 -528,75 -543,150 ; -477,-169 -587,-169 -587,181 -399,181 ; -477,-169 -477,-141 -458,-141 -458,-169 ; -477,-169 -458,-169 ; -458,-169 -321,-169 ; -399,181 -399,153 -380,153 -380,181 ; -399,181 -380,181 ; -380,181 -243,181 ; -321,-169 -321,-141 -302,-141 -302,-169 ; -321,-169 -302,-169 ; -302,-169 -165,-169 ; -243,181 -243,153 -224,153 -224,181 ; -243,181 -224,181 ; -224,181 -87,181 ; -165,-169 -165,-141 -146,-141 -146,-169 ; -165,-169 -146,-169 ; -146,-169 -9,-169 ; -87,181 -68,181 ; -87,181 -87,153 -68,153 -68,181 ; -68,181 69,181 ; -9,-169 -9,-141 10,-141 10,-169 ; -9,-169 10,-169 ; 10,-169 147,-169 ; 69,181 88,181 ; 69,181 69,153 88,153 88,181 ; 88,181 225,181 ; 147,-169 147,-141 166,-141 166,-169 ; 147,-169 166,-169 ; 166,-169 303,-169 ; 225,181 244,181 ; 225,181 225,153 244,153 244,181 ; 244,181 381,181 ; 303,-169 303,-141 322,-141 322,-169 ; 303,-169 322,-169 ; 322,-169 459,-169 ; 381,181 400,181 ; 381,181 381,153 400,153 400,181 ; 400,181 587,181 587,-169 478,-169 ; 459,-169 459,-141 478,-141 478,-169 ; 459,-169 478,-169 ; -606,-188 -606,201 606,201 606,-188 -606,-188
  text "1" at -493,75 h77.5
Mechanical 16:
  lines w6: -493,-25 -493,25 ; -493,-25 -443,-25 ; -493,-25 -443,25 ; -493,25 -443,25 ; -493,25 -443,-25 ; -443,-25 -443,25 ; -337,-25 -337,25 ; -337,-25 -287,-25 ; -337,-25 -287,25 ; -337,25 -287,25 ; -337,25 -287,-25 ; -287,-25 -287,25 ; -181,-25 -181,25 ; -181,-25 -131,-25 ; -181,-25 -131,25 ; -181,25 -131,25 ; -181,25 -131,-25 ; -131,-25 -131,25 ; -25,-25 -25,25 ; -25,-25 25,-25 ; -25,-25 25,25 ; -25,25 25,25 ; -25,25 25,-25 ; 25,-25 25,25 ; 131,-25 131,25 ; 131,-25 181,-25 ; 131,-25 181,25 ; 131,25 181,25 ; 131,25 181,-25 ; 181,-25 181,25 ; 287,-25 287,25 ; 287,-25 337,-25 ; 287,-25 337,25 ; 287,25 337,25 ; 287,25 337,-25 ; 337,-25 337,25 ; 443,-25 443,25 ; 443,-25 493,-25 ; 443,-25 493,25 ; 443,25 493,25 ; 443,25 493,-25 ; 493,-25 493,25

## MT6-7Y [mil]
pads (7):
  oval 106.5x213 hole 71: 1(-468,0) 2(-312,0) 3(-156,0) 4(0,0) 5(156,0) 6(312,0) 7(468,0)
Top Overlay:
  circle w6: c-543,-135 r15
  lines w6: -543,-100 -543,150 ; -543,150 -558,75 -528,75 -543,150 ; -477,-169 -587,-169 -587,181 -399,181 ; -477,-169 -477,-141 -458,-141 -458,-169 ; -477,-169 -458,-169 ; -458,-169 -321,-169 ; -399,181 -399,153 -380,153 -380,181 ; -399,181 -380,181 ; -380,181 -243,181 ; -321,-169 -321,-141 -302,-141 -302,-169 ; -321,-169 -302,-169 ; -302,-169 -165,-169 ; -243,181 -243,153 -224,153 -224,181 ; -243,181 -224,181 ; -224,181 -87,181 ; -165,-169 -165,-141 -146,-141 -146,-169 ; -165,-169 -146,-169 ; -146,-169 -9,-169 ; -87,181 -68,181 ; -87,181 -87,153 -68,153 -68,181 ; -68,181 69,181 ; -9,-169 -9,-141 10,-141 10,-169 ; -9,-169 10,-169 ; 10,-169 147,-169 ; 69,181 88,181 ; 69,181 69,153 88,153 88,181 ; 88,181 225,181 ; 147,-169 147,-141 166,-141 166,-169 ; 147,-169 166,-169 ; 166,-169 303,-169 ; 225,181 244,181 ; 225,181 225,153 244,153 244,181 ; 244,181 381,181 ; 303,-169 303,-141 322,-141 322,-169 ; 303,-169 322,-169 ; 322,-169 459,-169 ; 381,181 400,181 ; 381,181 381,153 400,153 400,181 ; 400,181 587,181 587,-169 478,-169 ; 459,-169 459,-141 478,-141 478,-169 ; 459,-169 478,-169 ; -606,-188 -606,201 606,201 606,-188 -606,-188
  text "1" at -523,120 h77.5
Mechanical 16:
  lines w6: -493,-25 -493,25 ; -493,-25 -443,-25 ; -493,-25 -443,25 ; -493,25 -443,25 ; -493,25 -443,-25 ; -443,-25 -443,25 ; -337,-25 -337,25 ; -337,-25 -287,-25 ; -337,-25 -287,25 ; -337,25 -287,25 ; -337,25 -287,-25 ; -287,-25 -287,25 ; -181,-25 -181,25 ; -181,-25 -131,-25 ; -181,-25 -131,25 ; -181,25 -131,25 ; -181,25 -131,-25 ; -131,-25 -131,25 ; -25,-25 -25,25 ; -25,-25 25,-25 ; -25,-25 25,25 ; -25,25 25,25 ; -25,25 25,-25 ; 25,-25 25,25 ; 131,-25 131,25 ; 131,-25 181,-25 ; 131,-25 181,25 ; 131,25 181,25 ; 131,25 181,-25 ; 181,-25 181,25 ; 287,-25 287,25 ; 287,-25 337,-25 ; 287,-25 337,25 ; 287,25 337,25 ; 287,25 337,-25 ; 337,-25 337,25 ; 443,-25 443,25 ; 443,-25 493,-25 ; 443,-25 493,25 ; 443,25 493,25 ; 443,25 493,-25 ; 493,-25 493,25

## MT6-8 [mil]
pads (8):
  oval 106.5x213 hole 71: 1(-546,0) 2(-390,0) 3(-234,0) 4(-78,0) 5(78,0) 6(234,0) 7(390,0) 8(546,0)
Top Overlay:
  lines w6: -621,-100 -621,150 ; -621,150 -636,75 -606,75 -621,150 ; -555,-169 -665,-169 -665,181 -477,181 ; -555,-169 -555,-136 -536,-136 -536,-169 ; -555,-169 -536,-169 ; -536,-169 -399,-169 ; -477,181 -477,148 -458,148 -458,181 ; -477,181 -458,181 ; -458,181 -321,181 ; -399,-169 -399,-136 -380,-136 -380,-169 ; -399,-169 -380,-169 ; -380,-169 -243,-169 ; -321,181 -321,148 -302,148 -302,181 ; -321,181 -302,181 ; -302,181 -165,181 ; -243,-169 -243,-136 -224,-136 -224,-169 ; -243,-169 -224,-169 ; -224,-169 -87,-169 ; -165,181 -146,181 ; -165,181 -165,148 -146,148 -146,181 ; -146,181 -9,181 ; -87,-169 -87,-136 -68,-136 -68,-169 ; -87,-169 -68,-169 ; -68,-169 69,-169 ; -9,181 10,181 ; -9,181 -9,148 10,148 10,181 ; 10,181 147,181 ; 69,-169 69,-136 88,-136 88,-169 ; 69,-169 88,-169 ; 88,-169 225,-169 ; 147,181 166,181 ; 147,181 147,148 166,148 166,181 ; 166,181 303,181 ; 225,-169 225,-136 244,-136 244,-169 ; 225,-169 244,-169 ; 244,-169 381,-169 ; 303,181 322,181 ; 303,181 303,148 322,148 322,181 ; 322,181 459,181 ; 381,-169 381,-136 400,-136 400,-169 ; 381,-169 400,-169 ; 400,-169 537,-169 ; 459,181 478,181 ; 459,181 459,148 478,148 478,181 ; 478,181 665,181 665,-169 556,-169 ; 537,-169 537,-136 556,-136 556,-169 ; 537,-169 556,-169 ; -684,-188 -684,201 684,201 684,-188 -684,-188
  text "1" at -571,75 h77.5
Mechanical 16:
  lines w6: -571,-25 -571,25 ; -571,-25 -521,-25 ; -571,-25 -521,25 ; -571,25 -521,25 ; -571,25 -521,-25 ; -521,-25 -521,25 ; -415,-25 -415,25 ; -415,-25 -365,-25 ; -415,-25 -365,25 ; -415,25 -365,25 ; -415,25 -365,-25 ; -365,-25 -365,25 ; -259,-25 -259,25 ; -259,-25 -209,-25 ; -259,-25 -209,25 ; -259,25 -209,25 ; -259,25 -209,-25 ; -209,-25 -209,25 ; -103,-25 -103,25 ; -103,-25 -53,-25 ; -103,-25 -53,25 ; -103,25 -53,25 ; -103,25 -53,-25 ; -53,-25 -53,25 ; 53,-25 53,25 ; 53,-25 103,-25 ; 53,-25 103,25 ; 53,25 103,25 ; 53,25 103,-25 ; 103,-25 103,25 ; 209,-25 209,25 ; 209,-25 259,-25 ; 209,-25 259,25 ; 209,25 259,25 ; 209,25 259,-25 ; 259,-25 259,25 ; 365,-25 365,25 ; 365,-25 415,-25 ; 365,-25 415,25 ; 365,25 415,25 ; 365,25 415,-25 ; 415,-25 415,25 ; 521,-25 521,25 ; 521,-25 571,-25 ; 521,-25 571,25 ; 521,25 571,25 ; 521,25 571,-25 ; 571,-25 571,25

## MT6-8Y [mil]
pads (8):
  oval 106.5x213 hole 71: 1(-546,0) 2(-390,0) 3(-234,0) 4(-78,0) 5(78,0) 6(234,0) 7(390,0) 8(546,0)
Top Overlay:
  circle w6: c-621,-135 r15
  lines w6: -621,-100 -621,150 ; -621,150 -636,75 -606,75 -621,150 ; -555,-169 -665,-169 -665,181 -477,181 ; -555,-169 -555,-136 -536,-136 -536,-169 ; -555,-169 -536,-169 ; -536,-169 -399,-169 ; -477,181 -477,148 -458,148 -458,181 ; -477,181 -458,181 ; -458,181 -321,181 ; -399,-169 -399,-136 -380,-136 -380,-169 ; -399,-169 -380,-169 ; -380,-169 -243,-169 ; -321,181 -321,148 -302,148 -302,181 ; -321,181 -302,181 ; -302,181 -165,181 ; -243,-169 -243,-136 -224,-136 -224,-169 ; -243,-169 -224,-169 ; -224,-169 -87,-169 ; -165,181 -146,181 ; -165,181 -165,148 -146,148 -146,181 ; -146,181 -9,181 ; -87,-169 -87,-136 -68,-136 -68,-169 ; -87,-169 -68,-169 ; -68,-169 69,-169 ; -9,181 10,181 ; -9,181 -9,148 10,148 10,181 ; 10,181 147,181 ; 69,-169 69,-136 88,-136 88,-169 ; 69,-169 88,-169 ; 88,-169 225,-169 ; 147,181 166,181 ; 147,181 147,148 166,148 166,181 ; 166,181 303,181 ; 225,-169 225,-136 244,-136 244,-169 ; 225,-169 244,-169 ; 244,-169 381,-169 ; 303,181 322,181 ; 303,181 303,148 322,148 322,181 ; 322,181 459,181 ; 381,-169 381,-136 400,-136 400,-169 ; 381,-169 400,-169 ; 400,-169 537,-169 ; 459,181 478,181 ; 459,181 459,148 478,148 478,181 ; 478,181 665,181 665,-169 556,-169 ; 537,-169 537,-136 556,-136 556,-169 ; 537,-169 556,-169 ; -684,-188 -684,201 684,201 684,-188 -684,-188
  text "1" at -601,120 h77.5
Mechanical 16:
  lines w6: -571,-25 -571,25 ; -571,-25 -521,-25 ; -571,-25 -521,25 ; -571,25 -521,25 ; -571,25 -521,-25 ; -521,-25 -521,25 ; -415,-25 -415,25 ; -415,-25 -365,-25 ; -415,-25 -365,25 ; -415,25 -365,25 ; -415,25 -365,-25 ; -365,-25 -365,25 ; -259,-25 -259,25 ; -259,-25 -209,-25 ; -259,-25 -209,25 ; -259,25 -209,25 ; -259,25 -209,-25 ; -209,-25 -209,25 ; -103,-25 -103,25 ; -103,-25 -53,-25 ; -103,-25 -53,25 ; -103,25 -53,25 ; -103,25 -53,-25 ; -53,-25 -53,25 ; 53,-25 53,25 ; 53,-25 103,-25 ; 53,-25 103,25 ; 53,25 103,25 ; 53,25 103,-25 ; 103,-25 103,25 ; 209,-25 209,25 ; 209,-25 259,-25 ; 209,-25 259,25 ; 209,25 259,25 ; 209,25 259,-25 ; 259,-25 259,25 ; 365,-25 365,25 ; 365,-25 415,-25 ; 365,-25 415,25 ; 365,25 415,25 ; 365,25 415,-25 ; 415,-25 415,25 ; 521,-25 521,25 ; 521,-25 571,-25 ; 521,-25 571,25 ; 521,25 571,25 ; 521,25 571,-25 ; 571,-25 571,25

## S02P [mil]
pads (2):
  oval 60x120 hole 40: 1(49.21,0) 2(-49.21,0)
Top Overlay:
  lines w2: -104.8,-145 -104.8,-105 ; 108.23,-145 108.23,-105
  lines w6: -149.8,-50 -149.8,-95 ccw(c-139.8,-95) -139.8,-105 -104.8,-105 -89.8,-105 ; -149.8,-50 153.23,-50 ; -149.8,-50 -149.8,50 ; -149.8,50 153.23,50 ; -149.8,50 -149.8,95 cw(c-139.8,95) -139.8,105 143.23,105 cw(c143.23,95) 153.23,95 153.23,50 ; -89.8,-105 -89.8,-145 -104.8,-145 -169.8,-145 cw(c-169.8,-125) -189.8,-125 -189.8,125 cw(c-169.8,125) -169.8,145 173.23,145 cw(c173.23,125) 193.23,125 193.23,-125 cw(c173.23,-125) 173.23,-145 108.23,-145 93.23,-145 93.23,-105 ; -89.8,-105 -89.8,-85 93.23,-85 93.23,-105 ; 93.23,-105 108.23,-105 143.23,-105 ccw(c143.23,-95) 153.23,-95 153.23,-50 ; 153.23,-50 153.23,50
  text "1" at 101.21,-25 h77.5
  text "2" at -133.79,-25 h77.5
Mechanical 16:
  lines w6: -63.78,-15 -63.78,15 ; -63.78,-15 -33.78,15 ; -63.78,-15 -33.78,-15 ; -63.78,15 -33.78,15 ; -63.78,15 -33.78,-15 ; -33.78,-15 -33.78,15 ; 34.21,-15 34.21,15 ; 34.21,-15 64.21,15 ; 34.21,-15 64.21,-15 ; 34.21,15 64.21,15 ; 34.21,15 64.21,-15 ; 64.21,-15 64.21,15